# Altium integrated library TI Power Management Linear Regulator Single Channel LDO (0-350mA).IntLib: 1648 symbols (part 23 of 66)
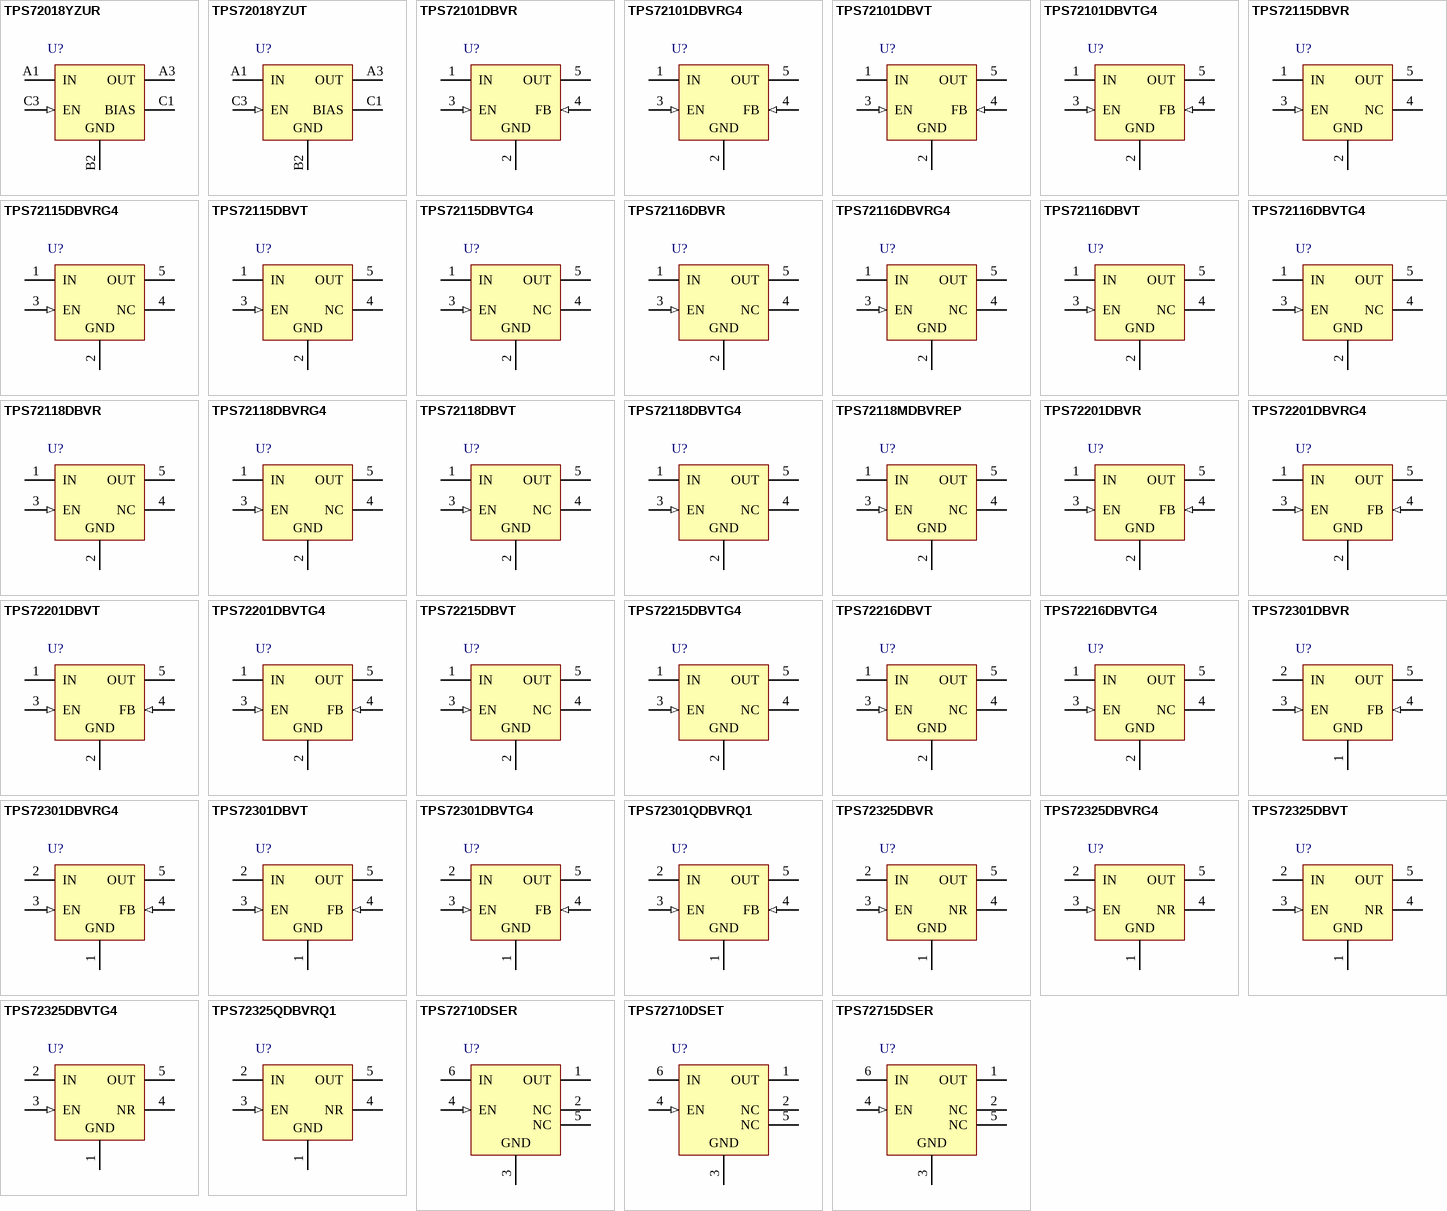
[diagram p64: symbols TPS72018YZUR to TPS72715DSER]

## TPS72118MDBVREP
designator U?
Single Output Cap Free LDO, 100 mA, Fixed 1.8 V Output, 1.8 to 5.5 V Input, 5-pin SOT-23 (DBV), -55 to 125 degC, Green (RoHS & no Sb/Br); Manufacturer: Texas Instruments; PartNumber: TPS72118MDBVREP; Accuracy(%): 3; Fixed Output Options(V): 1.8; Iout(Max)(A): 0.1; Iq(Typ)(mA): 0.57; Rating: HiRel Enhanced Product; SubFamily: Single Channel LDO; Vdo(Typ)(mV): 150; Vin(Max)(V): 5.5; DatasheetVersion: SGDS037A; PackageVersion: 4073253-4/K; PackageReference: DBV5; PackageDescription: 5-Pin Plastic Small Outline, Body 1.60 × 2.90 mm, Pitch 0.95 mm; Supplier 1: Digi-Key; Supplier Part Number 1: 296-23481-2-ND; Supplier 2: Digi-Key; Supplier Part Number 2: 296-23481-1-ND; Supplier 3: Digi-Key; Supplier Part Number 3: 296-23481-6-ND; Supplier 4: Newark; Supplier Part Number 4: 79R8607; Supplier 5: Mouser; Supplier Part Number 5: 595-TPS72118MDBVREP; Eco-Plan: Green (RoHS & no Sb/Br); Vin(Min)(V): 1.8; Vout Adj(Max)(V): 1.8; Vout Adj(Min)(V): 1.8; Mounting Technology: Surface Mount; Code_JEDEC: MO-178; ComponentLink1Description: Manufacturer URL; ComponentLink1URL: http://www.ti.com/; ComponentLink2Description: Datasheet; ComponentLink2URL: http://www.ti.com/general/docs/lit/getliterature.tsp?genericPartNumber=TPS72118-EP&fileType=pdf; ComponentLink3Description: Package Specification; ComponentLink3URL: http://www.ti.com/litv/pdf/mpds018i
footprint TI-DBV5_N (SOT23, 5-Leads, Body 2.9x1.6mm, Pitch 0.95mm, IPC Medium Density)
footprint TI-DBV5_L (SOT23, 5-Leads, Body 2.9x1.6mm, Pitch 0.95mm, IPC High Density)
footprint TI-DBV5_M (SOT23, 5-Leads, Body 2.9x1.6mm, Pitch 0.95mm, IPC Low Density)
pins: 1 IN (power) "Input supply voltage", 2 GND (power) "Ground", 3 EN (in) "Enable input", 4 NC "No connected", 5 OUT (power) "Regulated output voltage"

## TPS72201DBVR
designator U?
Single Output Low Noise LDO, 50 mA, Adjustable 1.22 to 2.5 V Output, 1.8 to 5.5 V Input, 5-pin SOT-23 (DBV), -40 to 125 degC, Green (RoHS & no Sb/Br); Manufacturer: Texas Instruments; PartNumber: TPS72201DBVR; Accuracy(%): 3; Iout(Max)(A): 0.05; Iq(Typ)(mA): 0.28; Rating: Catalog; SubFamily: Single Channel LDO; Vdo(Typ)(mV): 50; Vin(Max)(V): 5.5; Vin(Min)(V): 1.8; Vout Adj(Max)(V): 2.5; Vout Adj(Min)(V): 1.22; DatasheetVersion: SLVS390B; PackageVersion: 4073253-4/K; PackageReference: DBV5; PackageDescription: 5-Pin Plastic Small Outline, Body 1.60 × 2.90 mm, Pitch 0.95 mm; Supplier 1: Digi-Key; Supplier Part Number 1: 296-17874-2-ND; Supplier 2: Digi-Key; Supplier Part Number 2: 296-17874-1-ND; Supplier 3: Digi-Key; Supplier Part Number 3: 296-17874-6-ND; Supplier 4: Mouser; Supplier Part Number 4: 595-TPS72201DBVR; Eco-Plan: Green (RoHS & no Sb/Br); Mounting Technology: Surface Mount; Code_JEDEC: MO-178; ComponentLink1Description: Manufacturer URL; ComponentLink1URL: http://www.ti.com/; ComponentLink2Description: Datasheet; ComponentLink2URL: http://www.ti.com/general/docs/lit/getliterature.tsp?genericPartNumber=TPS72201&fileType=pdf; ComponentLink3Description: Package Specification; ComponentLink3URL: http://www.ti.com/litv/pdf/mpds018i; ComponentLink4Description: URL Link1; ComponentLink4URL: Samples URL:http://www.ti.com/product/tps72201#samples
footprint TI-DBV5_N (SOT23, 5-Leads, Body 2.9x1.6mm, Pitch 0.95mm, IPC Medium Density)
footprint TI-DBV5_L (SOT23, 5-Leads, Body 2.9x1.6mm, Pitch 0.95mm, IPC High Density)
footprint TI-DBV5_M (SOT23, 5-Leads, Body 2.9x1.6mm, Pitch 0.95mm, IPC Low Density)
pins: 1 IN (power) "Input pin. A small capacitor is needed from this pin to ground to assure stability. Typical input capacitor = 1.0uF. Both input and output capacitor grounds should be tied back to the IC ground with no significant impedance (See Datasheet)", 2 GND (power) "Ground pin.", 3 EN (in) "Driving the enable pin (EN) over 1.2V turns on the regulator. Driving this pin below 0.4V puts the regulator into shutdown mode, reducing operating current to 18nA typical.", 4 FB (in) "Feedback pin (FB) for adjustable versions", 5 OUT (power) "Regulated output voltage pin. A small 1-uF ceramic capacitor is needed from this pin to ground to assure stability.See Input and Output Capacitor Requirements in the Application Information section for more details."

## TPS72201DBVRG4
designator U?
Single Output Low Noise LDO, 50 mA, Adjustable 1.22 to 2.5 V Output, 1.8 to 5.5 V Input, 5-pin SOT-23 (DBV), -40 to 125 degC, Green (RoHS & no Sb/Br); Manufacturer: Texas Instruments; PartNumber: TPS72201DBVRG4; Accuracy(%): 3; Iout(Max)(A): 0.05; Iq(Typ)(mA): 0.28; Rating: Catalog; SubFamily: Single Channel LDO; Vdo(Typ)(mV): 50; Vin(Max)(V): 5.5; Vin(Min)(V): 1.8; Vout Adj(Max)(V): 2.5; Vout Adj(Min)(V): 1.22; DatasheetVersion: SLVS390B; PackageVersion: 4073253-4/K; PackageReference: DBV5; PackageDescription: 5-Pin Plastic Small Outline, Body 1.60 × 2.90 mm, Pitch 0.95 mm; Supplier 1: Digi-Key; Supplier Part Number 1: TPS72201DBVRG4-ND; Supplier 2: Newark; Supplier Part Number 2: 33K7687; Supplier 3: Mouser; Supplier Part Number 3: 595-TPS72201DBVRG4; Eco-Plan: Green (RoHS & no Sb/Br); Mounting Technology: Surface Mount; Code_JEDEC: MO-178; ComponentLink1Description: Manufacturer URL; ComponentLink1URL: http://www.ti.com/; ComponentLink2Description: Datasheet; ComponentLink2URL: http://www.ti.com/general/docs/lit/getliterature.tsp?genericPartNumber=TPS72201&fileType=pdf; ComponentLink3Description: Package Specification; ComponentLink3URL: http://www.ti.com/litv/pdf/mpds018i; ComponentLink4Description: URL Link1; ComponentLink4URL: Samples URL:http://www.ti.com/product/tps72201#samples
footprint TI-DBV5_N (SOT23, 5-Leads, Body 2.9x1.6mm, Pitch 0.95mm, IPC Medium Density)
footprint TI-DBV5_L (SOT23, 5-Leads, Body 2.9x1.6mm, Pitch 0.95mm, IPC High Density)
footprint TI-DBV5_M (SOT23, 5-Leads, Body 2.9x1.6mm, Pitch 0.95mm, IPC Low Density)
pins: 1 IN (power) "Input pin. A small capacitor is needed from this pin to ground to assure stability. Typical input capacitor = 1.0uF. Both input and output capacitor grounds should be tied back to the IC ground with no significant impedance (See Datasheet)", 2 GND (power) "Ground pin.", 3 EN (in) "Driving the enable pin (EN) over 1.2V turns on the regulator. Driving this pin below 0.4V puts the regulator into shutdown mode, reducing operating current to 18nA typical.", 4 FB (in) "Feedback pin (FB) for adjustable versions", 5 OUT (power) "Regulated output voltage pin. A small 1-uF ceramic capacitor is needed from this pin to ground to assure stability.See Input and Output Capacitor Requirements in the Application Information section for more details."

## TPS72201DBVT
designator U?
Single Output Low Noise LDO, 50 mA, Adjustable 1.22 to 2.5 V Output, 1.8 to 5.5 V Input, 5-pin SOT-23 (DBV), -40 to 125 degC, Green (RoHS & no Sb/Br); Manufacturer: Texas Instruments; PartNumber: TPS72201DBVT; Accuracy(%): 3; Iout(Max)(A): 0.05; Iq(Typ)(mA): 0.28; Rating: Catalog; SubFamily: Single Channel LDO; Vdo(Typ)(mV): 50; Vin(Max)(V): 5.5; Vin(Min)(V): 1.8; Vout Adj(Max)(V): 2.5; Vout Adj(Min)(V): 1.22; DatasheetVersion: SLVS390B; PackageVersion: 4073253-4/K; PackageReference: DBV5; PackageDescription: 5-Pin Plastic Small Outline, Body 1.60 × 2.90 mm, Pitch 0.95 mm; Supplier 1: Digi-Key; Supplier Part Number 1: 296-15677-2-ND; Supplier 2: Digi-Key; Supplier Part Number 2: 296-15677-1-ND; Supplier 3: Digi-Key; Supplier Part Number 3: 296-15677-6-ND; Supplier 4: Mouser; Supplier Part Number 4: 595-TPS72201DBVT; Eco-Plan: Green (RoHS & no Sb/Br); Mounting Technology: Surface Mount; Code_JEDEC: MO-178; ComponentLink1Description: Manufacturer URL; ComponentLink1URL: http://www.ti.com/; ComponentLink2Description: Datasheet; ComponentLink2URL: http://www.ti.com/general/docs/lit/getliterature.tsp?genericPartNumber=TPS72201&fileType=pdf; ComponentLink3Description: Package Specification; ComponentLink3URL: http://www.ti.com/litv/pdf/mpds018i; ComponentLink4Description: URL Link1; ComponentLink4URL: Samples URL:http://www.ti.com/product/tps72201#samples
footprint TI-DBV5_N (SOT23, 5-Leads, Body 2.9x1.6mm, Pitch 0.95mm, IPC Medium Density)
footprint TI-DBV5_L (SOT23, 5-Leads, Body 2.9x1.6mm, Pitch 0.95mm, IPC High Density)
footprint TI-DBV5_M (SOT23, 5-Leads, Body 2.9x1.6mm, Pitch 0.95mm, IPC Low Density)
pins: 1 IN (power) "Input pin. A small capacitor is needed from this pin to ground to assure stability. Typical input capacitor = 1.0uF. Both input and output capacitor grounds should be tied back to the IC ground with no significant impedance (See Datasheet)", 2 GND (power) "Ground pin.", 3 EN (in) "Driving the enable pin (EN) over 1.2V turns on the regulator. Driving this pin below 0.4V puts the regulator into shutdown mode, reducing operating current to 18nA typical.", 4 FB (in) "Feedback pin (FB) for adjustable versions", 5 OUT (power) "Regulated output voltage pin. A small 1-uF ceramic capacitor is needed from this pin to ground to assure stability.See Input and Output Capacitor Requirements in the Application Information section for more details."

## TPS72201DBVTG4
designator U?
Single Output Low Noise LDO, 50 mA, Adjustable 1.22 to 2.5 V Output, 1.8 to 5.5 V Input, 5-pin SOT-23 (DBV), -40 to 125 degC, Green (RoHS & no Sb/Br); Manufacturer: Texas Instruments; PartNumber: TPS72201DBVTG4; Accuracy(%): 3; Iout(Max)(A): 0.05; Iq(Typ)(mA): 0.28; Rating: Catalog; SubFamily: Single Channel LDO; Vdo(Typ)(mV): 50; Vin(Max)(V): 5.5; Vin(Min)(V): 1.8; Vout Adj(Max)(V): 2.5; Vout Adj(Min)(V): 1.22; DatasheetVersion: SLVS390B; PackageVersion: 4073253-4/K; PackageReference: DBV5; PackageDescription: 5-Pin Plastic Small Outline, Body 1.60 × 2.90 mm, Pitch 0.95 mm; Supplier 1: Digi-Key; Supplier Part Number 1: TPS72201DBVTG4-ND; Supplier 2: Mouser; Supplier Part Number 2: 595-TPS72201DBVTG4; Eco-Plan: Green (RoHS & no Sb/Br); Mounting Technology: Surface Mount; Code_JEDEC: MO-178; ComponentLink1Description: Manufacturer URL; ComponentLink1URL: http://www.ti.com/; ComponentLink2Description: Datasheet; ComponentLink2URL: http://www.ti.com/general/docs/lit/getliterature.tsp?genericPartNumber=TPS72201&fileType=pdf; ComponentLink3Description: Package Specification; ComponentLink3URL: http://www.ti.com/litv/pdf/mpds018i; ComponentLink4Description: URL Link1; ComponentLink4URL: Samples URL:http://www.ti.com/product/tps72201#samples
footprint TI-DBV5_N (SOT23, 5-Leads, Body 2.9x1.6mm, Pitch 0.95mm, IPC Medium Density)
footprint TI-DBV5_L (SOT23, 5-Leads, Body 2.9x1.6mm, Pitch 0.95mm, IPC High Density)
footprint TI-DBV5_M (SOT23, 5-Leads, Body 2.9x1.6mm, Pitch 0.95mm, IPC Low Density)
pins: 1 IN (power) "Input pin. A small capacitor is needed from this pin to ground to assure stability. Typical input capacitor = 1.0uF. Both input and output capacitor grounds should be tied back to the IC ground with no significant impedance (See Datasheet)", 2 GND (power) "Ground pin.", 3 EN (in) "Driving the enable pin (EN) over 1.2V turns on the regulator. Driving this pin below 0.4V puts the regulator into shutdown mode, reducing operating current to 18nA typical.", 4 FB (in) "Feedback pin (FB) for adjustable versions", 5 OUT (power) "Regulated output voltage pin. A small 1-uF ceramic capacitor is needed from this pin to ground to assure stability.See Input and Output Capacitor Requirements in the Application Information section for more details."

## TPS72215DBVT
designator U?
Single Output Low Noise LDO, 50 mA, Fixed 1.5 V Output, 1.8 to 5.5 V Input, 5-pin SOT-23 (DBV), -40 to 125 degC, Green (RoHS & no Sb/Br); Manufacturer: Texas Instruments; PartNumber: TPS72215DBVT; Accuracy(%): 3; Fixed Output Options(V): 1.5; Iout(Max)(A): 0.05; Iq(Typ)(mA): 0.28; Rating: Catalog; SubFamily: Single Channel LDO; Vdo(Typ)(mV): 50; Vin(Max)(V): 5.5; Vin(Min)(V): 1.8; DatasheetVersion: SLVS390B; PackageVersion: 4073253-4/K; PackageReference: DBV5; PackageDescription: 5-Pin Plastic Small Outline, Body 1.60 × 2.90 mm, Pitch 0.95 mm; Supplier 1: Digi-Key; Supplier Part Number 1: 296-12521-2-ND; Supplier 2: Digi-Key; Supplier Part Number 2: 296-12521-1-ND; Supplier 3: Digi-Key; Supplier Part Number 3: 296-12521-6-ND; Supplier 4: Newark; Supplier Part Number 4: 77C0827; Supplier 5: Mouser; Supplier Part Number 5: 595-TPS72215DBVT; Eco-Plan: Green (RoHS & no Sb/Br); Vout Adj(Max)(V): 1.5; Vout Adj(Min)(V): 1.5; Mounting Technology: Surface Mount; Code_JEDEC: MO-178; ComponentLink1Description: Manufacturer URL; ComponentLink1URL: http://www.ti.com/; ComponentLink2Description: Datasheet; ComponentLink2URL: http://www.ti.com/general/docs/lit/getliterature.tsp?genericPartNumber=TPS72215&fileType=pdf; ComponentLink3Description: Package Specification; ComponentLink3URL: http://www.ti.com/litv/pdf/mpds018i; ComponentLink4Description: URL Link1; ComponentLink4URL: Samples URL:http://www.ti.com/product/tps72215#samples
footprint TI-DBV5_N (SOT23, 5-Leads, Body 2.9x1.6mm, Pitch 0.95mm, IPC Medium Density)
footprint TI-DBV5_L (SOT23, 5-Leads, Body 2.9x1.6mm, Pitch 0.95mm, IPC High Density)
footprint TI-DBV5_M (SOT23, 5-Leads, Body 2.9x1.6mm, Pitch 0.95mm, IPC Low Density)
pins: 1 IN (power) "Input supply voltage", 2 GND (power) "Ground", 3 EN (in) "Enable input", 4 NC "No connected", 5 OUT (power) "Regulated output voltage"

## TPS72215DBVTG4
designator U?
Single Output Low Noise LDO, 50 mA, Fixed 1.5 V Output, 1.8 to 5.5 V Input, 5-pin SOT-23 (DBV), -40 to 125 degC, Green (RoHS & no Sb/Br); Manufacturer: Texas Instruments; PartNumber: TPS72215DBVTG4; Accuracy(%): 3; Fixed Output Options(V): 1.5; Iout(Max)(A): 0.05; Iq(Typ)(mA): 0.28; Rating: Catalog; SubFamily: Single Channel LDO; Vdo(Typ)(mV): 50; Vin(Max)(V): 5.5; Vin(Min)(V): 1.8; DatasheetVersion: SLVS390B; PackageVersion: 4073253-4/K; PackageReference: DBV5; PackageDescription: 5-Pin Plastic Small Outline, Body 1.60 × 2.90 mm, Pitch 0.95 mm; Supplier 1: Digi-Key; Supplier Part Number 1: TPS72215DBVTG4-ND; Supplier 2: Newark; Supplier Part Number 2: 70K5770; Supplier 3: Mouser; Supplier Part Number 3: 595-TPS72215DBVTG4; Eco-Plan: Green (RoHS & no Sb/Br); Vout Adj(Max)(V): 1.5; Vout Adj(Min)(V): 1.5; Mounting Technology: Surface Mount; Code_JEDEC: MO-178; ComponentLink1Description: Manufacturer URL; ComponentLink1URL: http://www.ti.com/; ComponentLink2Description: Datasheet; ComponentLink2URL: http://www.ti.com/general/docs/lit/getliterature.tsp?genericPartNumber=TPS72215&fileType=pdf; ComponentLink3Description: Package Specification; ComponentLink3URL: http://www.ti.com/litv/pdf/mpds018i; ComponentLink4Description: URL Link1; ComponentLink4URL: Samples URL:http://www.ti.com/product/tps72215#samples
footprint TI-DBV5_N (SOT23, 5-Leads, Body 2.9x1.6mm, Pitch 0.95mm, IPC Medium Density)
footprint TI-DBV5_L (SOT23, 5-Leads, Body 2.9x1.6mm, Pitch 0.95mm, IPC High Density)
footprint TI-DBV5_M (SOT23, 5-Leads, Body 2.9x1.6mm, Pitch 0.95mm, IPC Low Density)
pins: 1 IN (power) "Input supply voltage", 2 GND (power) "Ground", 3 EN (in) "Enable input", 4 NC "No connected", 5 OUT (power) "Regulated output voltage"

## TPS72216DBVT
designator U?
Single Output Low Noise LDO, 50 mA, Fixed 1.6 V Output, 1.8 to 5.5 V Input, 5-pin SOT-23 (DBV), -40 to 125 degC, Green (RoHS & no Sb/Br); Manufacturer: Texas Instruments; PartNumber: TPS72216DBVT; Accuracy(%): 3; Fixed Output Options(V): 1.6; Iout(Max)(A): 0.05; Iq(Typ)(mA): 0.28; Rating: Catalog; SubFamily: Single Channel LDO; Vdo(Typ)(mV): 50; Vin(Max)(V): 5.5; Vin(Min)(V): 1.8; DatasheetVersion: SLVS390B; PackageVersion: 4073253-4/K; PackageReference: DBV5; PackageDescription: 5-Pin Plastic Small Outline, Body 1.60 × 2.90 mm, Pitch 0.95 mm; Supplier 1: Digi-Key; Supplier Part Number 1: 296-12522-2-ND; Supplier 2: Digi-Key; Supplier Part Number 2: 296-12522-1-ND; Supplier 3: Digi-Key; Supplier Part Number 3: 296-12522-6-ND; Supplier 4: Newark; Supplier Part Number 4: 77C0829; Supplier 5: Mouser; Supplier Part Number 5: 595-TPS72216DBVT; Eco-Plan: Green (RoHS & no Sb/Br); Vout Adj(Max)(V): 1.6; Vout Adj(Min)(V): 1.6; Mounting Technology: Surface Mount; Code_JEDEC: MO-178; ComponentLink1Description: Manufacturer URL; ComponentLink1URL: http://www.ti.com/; ComponentLink2Description: Datasheet; ComponentLink2URL: http://www.ti.com/general/docs/lit/getliterature.tsp?genericPartNumber=TPS72216&fileType=pdf; ComponentLink3Description: Package Specification; ComponentLink3URL: http://www.ti.com/litv/pdf/mpds018i; ComponentLink4Description: URL Link1; ComponentLink4URL: Samples URL:http://www.ti.com/product/tps72216#samples
footprint TI-DBV5_N (SOT23, 5-Leads, Body 2.9x1.6mm, Pitch 0.95mm, IPC Medium Density)
footprint TI-DBV5_L (SOT23, 5-Leads, Body 2.9x1.6mm, Pitch 0.95mm, IPC High Density)
footprint TI-DBV5_M (SOT23, 5-Leads, Body 2.9x1.6mm, Pitch 0.95mm, IPC Low Density)
pins: 1 IN (power) "Input supply voltage", 2 GND (power) "Ground", 3 EN (in) "Enable input", 4 NC "No connected", 5 OUT (power) "Regulated output voltage"

## TPS72216DBVTG4
designator U?
Single Output Low Noise LDO, 50 mA, Fixed 1.6 V Output, 1.8 to 5.5 V Input, 5-pin SOT-23 (DBV), -40 to 125 degC, Green (RoHS & no Sb/Br); Manufacturer: Texas Instruments; PartNumber: TPS72216DBVTG4; Accuracy(%): 3; Fixed Output Options(V): 1.6; Iout(Max)(A): 0.05; Iq(Typ)(mA): 0.28; Rating: Catalog; SubFamily: Single Channel LDO; Vdo(Typ)(mV): 50; Vin(Max)(V): 5.5; Vin(Min)(V): 1.8; DatasheetVersion: SLVS390B; PackageVersion: 4073253-4/K; PackageReference: DBV5; PackageDescription: 5-Pin Plastic Small Outline, Body 1.60 × 2.90 mm, Pitch 0.95 mm; Supplier 1: Digi-Key; Supplier Part Number 1: TPS72216DBVTG4-ND; Supplier 2: Mouser; Supplier Part Number 2: 595-TPS72216DBVTG4; Eco-Plan: Green (RoHS & no Sb/Br); Vout Adj(Max)(V): 1.6; Vout Adj(Min)(V): 1.6; Mounting Technology: Surface Mount; Code_JEDEC: MO-178; ComponentLink1Description: Manufacturer URL; ComponentLink1URL: http://www.ti.com/; ComponentLink2Description: Datasheet; ComponentLink2URL: http://www.ti.com/general/docs/lit/getliterature.tsp?genericPartNumber=TPS72216&fileType=pdf; ComponentLink3Description: Package Specification; ComponentLink3URL: http://www.ti.com/litv/pdf/mpds018i; ComponentLink4Description: URL Link1; ComponentLink4URL: Samples URL:http://www.ti.com/product/tps72216#samples
footprint TI-DBV5_N (SOT23, 5-Leads, Body 2.9x1.6mm, Pitch 0.95mm, IPC Medium Density)
footprint TI-DBV5_L (SOT23, 5-Leads, Body 2.9x1.6mm, Pitch 0.95mm, IPC High Density)
footprint TI-DBV5_M (SOT23, 5-Leads, Body 2.9x1.6mm, Pitch 0.95mm, IPC Low Density)
pins: 1 IN (power) "Input supply voltage", 2 GND (power) "Ground", 3 EN (in) "Enable input", 4 NC "No connected", 5 OUT (power) "Regulated output voltage"

## TPS72301DBVR
designator U?
Single Output LDO, 200 mA, Adjustable -10 to -1.2 V Output, -10 to -2.7 V Input, 5-pin SOT-23 (DBV), -40 to 125 degC, Green (RoHS & no Sb/Br); Manufacturer: Texas Instruments; PartNumber: TPS72301DBVR; Accuracy(%): 2; Iout(Max)(A): 0.2; Iq(Typ)(mA): 0.13; SubFamily: Single Channel LDO; Vdo(Typ)(mV): 280; DatasheetVersion: SLVS346B; PackageVersion: 4073253-4/K; PackageReference: DBV5; PackageDescription: 5-Pin Plastic Small Outline, Body 1.60 × 2.90 mm, Pitch 0.95 mm; Supplier 1: Digi-Key; Supplier Part Number 1: 296-27049-2-ND; Supplier 2: Digi-Key; Supplier Part Number 2: 296-27049-1-ND; Supplier 3: Digi-Key; Supplier Part Number 3: 296-27049-6-ND; Supplier 4: Newark; Supplier Part Number 4: 87H2930; Supplier 5: Mouser; Supplier Part Number 5: 595-TPS72301DBVR; Eco-Plan: Green (RoHS & no Sb/Br); Vin(Max)(V): -2.7; Vin(Min)(V): -10; Vout Adj(Max)(V): -1.2; Vout Adj(Min)(V): -10; Mounting Technology: Surface Mount; Code_JEDEC: MO-178; ComponentLink1Description: Manufacturer URL; ComponentLink1URL: http://www.ti.com/; ComponentLink2Description: Datasheet; ComponentLink2URL: http://www.ti.com/general/docs/lit/getliterature.tsp?genericPartNumber=TPS72301&fileType=pdf; ComponentLink3Description: Package Specification; ComponentLink3URL: http://www.ti.com/litv/pdf/mpds018i
footprint TI-DBV5_N (SOT23, 5-Leads, Body 2.9x1.6mm, Pitch 0.95mm, IPC Medium Density)
footprint TI-DBV5_L (SOT23, 5-Leads, Body 2.9x1.6mm, Pitch 0.95mm, IPC High Density)
footprint TI-DBV5_M (SOT23, 5-Leads, Body 2.9x1.6mm, Pitch 0.95mm, IPC Low Density)
pins: 1 GND (power) "Ground", 2 IN (power) "Input supply", 3 EN (in) "Bipolar enable pin. Driving this pin above the positive enable threshold or below the negative enable threshold turns on the regulator. Driving this pin below the positive disable threshold and above the negative disable (See Datasheet)", 4 FB (in) "Adjustable voltage version only. This pin is the input to the control loop error amplifier. It is used to set the output voltage of the device.", 5 OUT (power) "Regulated output voltage. A small 2.2uF ceramic capacitor is needed from this pin to GND to ensure stability."

## TPS72301DBVRG4
designator U?
Single Output LDO, 200 mA, Adjustable -10 to -1.2 V Output, -10 to -2.7 V Input, 5-pin SOT-23 (DBV), -40 to 125 degC, Green (RoHS & no Sb/Br); Manufacturer: Texas Instruments; PartNumber: TPS72301DBVRG4; Accuracy(%): 2; Iout(Max)(A): 0.2; Iq(Typ)(mA): 0.13; SubFamily: Single Channel LDO; Vdo(Typ)(mV): 280; DatasheetVersion: SLVS346B; PackageVersion: 4073253-4/K; PackageReference: DBV5; PackageDescription: 5-Pin Plastic Small Outline, Body 1.60 × 2.90 mm, Pitch 0.95 mm; Supplier 1: Digi-Key; Supplier Part Number 1: TPS72301DBVRG4-ND; Supplier 2: Newark; Supplier Part Number 2: 33K7690; Supplier 3: Mouser; Supplier Part Number 3: 595-TPS72301DBVRG4; Eco-Plan: Green (RoHS & no Sb/Br); Vin(Max)(V): -2.7; Vin(Min)(V): -10; Vout Adj(Max)(V): -1.2; Vout Adj(Min)(V): -10; Mounting Technology: Surface Mount; Code_JEDEC: MO-178; ComponentLink1Description: Manufacturer URL; ComponentLink1URL: http://www.ti.com/; ComponentLink2Description: Datasheet; ComponentLink2URL: http://www.ti.com/general/docs/lit/getliterature.tsp?genericPartNumber=TPS72301&fileType=pdf; ComponentLink3Description: Package Specification; ComponentLink3URL: http://www.ti.com/litv/pdf/mpds018i
footprint TI-DBV5_N (SOT23, 5-Leads, Body 2.9x1.6mm, Pitch 0.95mm, IPC Medium Density)
footprint TI-DBV5_L (SOT23, 5-Leads, Body 2.9x1.6mm, Pitch 0.95mm, IPC High Density)
footprint TI-DBV5_M (SOT23, 5-Leads, Body 2.9x1.6mm, Pitch 0.95mm, IPC Low Density)
pins: 1 GND (power) "Ground", 2 IN (power) "Input supply", 3 EN (in) "Bipolar enable pin. Driving this pin above the positive enable threshold or below the negative enable threshold turns on the regulator. Driving this pin below the positive disable threshold and above the negative disable (See Datasheet)", 4 FB (in) "Adjustable voltage version only. This pin is the input to the control loop error amplifier. It is used to set the output voltage of the device.", 5 OUT (power) "Regulated output voltage. A small 2.2uF ceramic capacitor is needed from this pin to GND to ensure stability."

## TPS72301DBVT
designator U?
Single Output LDO, 200 mA, Adjustable -10 to -1.2 V Output, -10 to -2.7 V Input, 5-pin SOT-23 (DBV), -40 to 125 degC, Green (RoHS & no Sb/Br); Manufacturer: Texas Instruments; PartNumber: TPS72301DBVT; Accuracy(%): 2; Iout(Max)(A): 0.2; Iq(Typ)(mA): 0.13; SubFamily: Single Channel LDO; Vdo(Typ)(mV): 280; DatasheetVersion: SLVS346B; PackageVersion: 4073253-4/K; PackageReference: DBV5; PackageDescription: 5-Pin Plastic Small Outline, Body 1.60 × 2.90 mm, Pitch 0.95 mm; Supplier 1: Digi-Key; Supplier Part Number 1: 296-15798-2-ND; Supplier 2: Digi-Key; Supplier Part Number 2: 296-15798-1-ND; Supplier 3: Digi-Key; Supplier Part Number 3: 296-15798-6-ND; Supplier 4: Newark; Supplier Part Number 4: 87H2931; Supplier 5: Mouser; Supplier Part Number 5: 595-TPS72301DBVT; Eco-Plan: Green (RoHS & no Sb/Br); Vin(Max)(V): -2.7; Vin(Min)(V): -10; Vout Adj(Max)(V): -1.2; Vout Adj(Min)(V): -10; Mounting Technology: Surface Mount; Code_JEDEC: MO-178; ComponentLink1Description: Manufacturer URL; ComponentLink1URL: http://www.ti.com/; ComponentLink2Description: Datasheet; ComponentLink2URL: http://www.ti.com/general/docs/lit/getliterature.tsp?genericPartNumber=TPS72301&fileType=pdf; ComponentLink3Description: Package Specification; ComponentLink3URL: http://www.ti.com/litv/pdf/mpds018i
footprint TI-DBV5_N (SOT23, 5-Leads, Body 2.9x1.6mm, Pitch 0.95mm, IPC Medium Density)
footprint TI-DBV5_L (SOT23, 5-Leads, Body 2.9x1.6mm, Pitch 0.95mm, IPC High Density)
footprint TI-DBV5_M (SOT23, 5-Leads, Body 2.9x1.6mm, Pitch 0.95mm, IPC Low Density)
pins: 1 GND (power) "Ground", 2 IN (power) "Input supply", 3 EN (in) "Bipolar enable pin. Driving this pin above the positive enable threshold or below the negative enable threshold turns on the regulator. Driving this pin below the positive disable threshold and above the negative disable (See Datasheet)", 4 FB (in) "Adjustable voltage version only. This pin is the input to the control loop error amplifier. It is used to set the output voltage of the device.", 5 OUT (power) "Regulated output voltage. A small 2.2uF ceramic capacitor is needed from this pin to GND to ensure stability."

## TPS72301DBVTG4
designator U?
Single Output LDO, 200 mA, Adjustable -10 to -1.2 V Output, -10 to -2.7 V Input, 5-pin SOT-23 (DBV), -40 to 125 degC, Green (RoHS & no Sb/Br); Manufacturer: Texas Instruments; PartNumber: TPS72301DBVTG4; Accuracy(%): 2; Iout(Max)(A): 0.2; Iq(Typ)(mA): 0.13; SubFamily: Single Channel LDO; Vdo(Typ)(mV): 280; DatasheetVersion: SLVS346B; PackageVersion: 4073253-4/K; PackageReference: DBV5; PackageDescription: 5-Pin Plastic Small Outline, Body 1.60 × 2.90 mm, Pitch 0.95 mm; Supplier 1: Digi-Key; Supplier Part Number 1: TPS72301DBVTG4-ND; Supplier 2: Farnell; Supplier Part Number 2: 1207336RL; Supplier 3: Farnell; Supplier Part Number 3: 1207336; Supplier 4: Newark; Supplier Part Number 4: 20M6743; Supplier 5: Newark; Supplier Part Number 5: 33K7691; Supplier 6: Mouser; Supplier Part Number 6: 595-TPS72301DBVTG4; Eco-Plan: Green (RoHS & no Sb/Br); Vin(Max)(V): -2.7; Vin(Min)(V): -10; Vout Adj(Max)(V): -1.2; Vout Adj(Min)(V): -10; Mounting Technology: Surface Mount; Code_JEDEC: MO-178; ComponentLink1Description: Manufacturer URL; ComponentLink1URL: http://www.ti.com/; ComponentLink2Description: Datasheet; ComponentLink2URL: http://www.ti.com/general/docs/lit/getliterature.tsp?genericPartNumber=TPS72301&fileType=pdf; ComponentLink3Description: Package Specification; ComponentLink3URL: http://www.ti.com/litv/pdf/mpds018i
footprint TI-DBV5_N (SOT23, 5-Leads, Body 2.9x1.6mm, Pitch 0.95mm, IPC Medium Density)
footprint TI-DBV5_L (SOT23, 5-Leads, Body 2.9x1.6mm, Pitch 0.95mm, IPC High Density)
footprint TI-DBV5_M (SOT23, 5-Leads, Body 2.9x1.6mm, Pitch 0.95mm, IPC Low Density)
pins: 1 GND (power) "Ground", 2 IN (power) "Input supply", 3 EN (in) "Bipolar enable pin. Driving this pin above the positive enable threshold or below the negative enable threshold turns on the regulator. Driving this pin below the positive disable threshold and above the negative disable (See Datasheet)", 4 FB (in) "Adjustable voltage version only. This pin is the input to the control loop error amplifier. It is used to set the output voltage of the device.", 5 OUT (power) "Regulated output voltage. A small 2.2uF ceramic capacitor is needed from this pin to GND to ensure stability."

## TPS72301QDBVRQ1
designator U?
Single Output High PSRR LDO, 200 mA, Adjustable -10 to -1.2 V Output, -10 to -2.7 V Input, 5-pin SOT-23 (DBV), -40 to 125 degC, Green (RoHS & no Sb/Br); Manufacturer: Texas Instruments; PartNumber: TPS72301QDBVRQ1; Accuracy(%): 2; Iout(Max)(A): 0.2; Iq(Typ)(mA): 0.13; SubFamily: Single Channel LDO; Vdo(Typ)(mV): 280; DatasheetVersion: SLVSAJ4B; PackageVersion: 4073253-4/K; PackageReference: DBV5; PackageDescription: 5-Pin Plastic Small Outline, Body 1.60 × 2.90 mm, Pitch 0.95 mm; Supplier 1: Digi-Key; Supplier Part Number 1: TPS72301QDBVRQ1-ND; Supplier 2: Newark; Supplier Part Number 2: 48T4713; Supplier 3: Mouser; Supplier Part Number 3: 595-TPS72301QDBVRQ1; Eco-Plan: Green (RoHS & no Sb/Br); Vin(Max)(V): -2.7; Vin(Min)(V): -10; Vout Adj(Max)(V): -1.2; Vout Adj(Min)(V): -10; Mounting Technology: Surface Mount; Code_JEDEC: MO-178; ComponentLink1Description: Manufacturer URL; ComponentLink1URL: http://www.ti.com/; ComponentLink2Description: Datasheet; ComponentLink2URL: http://www.ti.com/general/docs/lit/getliterature.tsp?genericPartNumber=TPS72301-Q1&fileType=pdf; ComponentLink3Description: Package Specification; ComponentLink3URL: http://www.ti.com/litv/pdf/mpds018i
footprint TI-DBV5_N (SOT23, 5-Leads, Body 2.9x1.6mm, Pitch 0.95mm, IPC Medium Density)
footprint TI-DBV5_L (SOT23, 5-Leads, Body 2.9x1.6mm, Pitch 0.95mm, IPC High Density)
footprint TI-DBV5_M (SOT23, 5-Leads, Body 2.9x1.6mm, Pitch 0.95mm, IPC Low Density)
pins: 1 GND (power) "Ground", 2 IN (power) "Input supply", 3 EN (in) "Bipolar enable pin. Driving this pin above the positive enable threshold or below the negative enable threshold turns on the regulator. Driving this pin below the positive disable threshold and above the negative disable (See Datasheet)", 4 FB (in) "Adjustable voltage version only. This pin is the input to the control loop error amplifier. It is used to set the output voltage of the device.", 5 OUT (power) "Regulated output voltage. A small 2.2uF ceramic capacitor is needed from this pin to GND to ensure stability."

## TPS72325DBVR
designator U?
Single Output High PSRR LDO, 200 mA, Fixed -2.5 V Output, -10 to -2.7 V Input, 5-pin SOT-23 (DBV), -40 to 125 degC, Green (RoHS & no Sb/Br); Manufacturer: Texas Instruments; PartNumber: TPS72325DBVR; Accuracy(%): 2; Iout(Max)(A): 0.2; Iq(Typ)(mA): 0.13; SubFamily: Single Channel LDO; Vdo(Typ)(mV): 280; DatasheetVersion: SLVS346B; PackageVersion: 4073253-4/K; PackageReference: DBV5; PackageDescription: 5-Pin Plastic Small Outline, Body 1.60 × 2.90 mm, Pitch 0.95 mm; Supplier 1: Digi-Key; Supplier Part Number 1: TPS72325DBVR-ND; Supplier 2: Newark; Supplier Part Number 2: 87H2932; Supplier 3: Mouser; Supplier Part Number 3: 595-TPS72325DBVR; Eco-Plan: Green (RoHS & no Sb/Br); Fixed Output Options(V): -2.5; Vin(Max)(V): -2.7; Vin(Min)(V): -10; Vout Adj(Max)(V): -2.5; Vout Adj(Min)(V): -2.5; Mounting Technology: Surface Mount; Code_JEDEC: MO-178; ComponentLink1Description: Manufacturer URL; ComponentLink1URL: http://www.ti.com/; ComponentLink2Description: Datasheet; ComponentLink2URL: http://www.ti.com/general/docs/lit/getliterature.tsp?genericPartNumber=TPS72325&fileType=pdf; ComponentLink3Description: Package Specification; ComponentLink3URL: http://www.ti.com/litv/pdf/mpds018i
footprint TI-DBV5_N (SOT23, 5-Leads, Body 2.9x1.6mm, Pitch 0.95mm, IPC Medium Density)
footprint TI-DBV5_L (SOT23, 5-Leads, Body 2.9x1.6mm, Pitch 0.95mm, IPC High Density)
footprint TI-DBV5_M (SOT23, 5-Leads, Body 2.9x1.6mm, Pitch 0.95mm, IPC Low Density)
pins: 1 GND (power) "Ground", 2 IN (power) "Input supply", 3 EN (in) "Bipolar enable pin. Driving this pin above the positive enable threshold or below the negative enable threshold turns on the regulator. Driving this pin below the positive disable threshold and above the negative disable (See Datasheet)", 4 NR "Fixed-voltage versions only. Connecting an external capacitor between this pin and ground bypasses noise generated by the internal band gap. This configuration allows output noise to be reduced to very low levels.", 5 OUT (power) "Regulated output voltage. The device requires the connection of a small 2.2-uF ceramic capacitor from this pin to GND to ensure stability."

## TPS72325DBVRG4
designator U?
Single Output High PSRR LDO, 200 mA, Fixed -2.5 V Output, -10 to -2.7 V Input, 5-pin SOT-23 (DBV), -40 to 125 degC, Green (RoHS & no Sb/Br); Manufacturer: Texas Instruments; PartNumber: TPS72325DBVRG4; Accuracy(%): 2; Iout(Max)(A): 0.2; Iq(Typ)(mA): 0.13; SubFamily: Single Channel LDO; Vdo(Typ)(mV): 280; DatasheetVersion: SLVS346B; PackageVersion: 4073253-4/K; PackageReference: DBV5; PackageDescription: 5-Pin Plastic Small Outline, Body 1.60 × 2.90 mm, Pitch 0.95 mm; Supplier 1: Digi-Key; Supplier Part Number 1: TPS72325DBVRG4-ND; Supplier 2: Mouser; Supplier Part Number 2: 595-TPS72325DBVRG4; Eco-Plan: Green (RoHS & no Sb/Br); Fixed Output Options(V): -2.5; Vin(Max)(V): -2.7; Vin(Min)(V): -10; Vout Adj(Max)(V): -2.5; Vout Adj(Min)(V): -2.5; Mounting Technology: Surface Mount; Code_JEDEC: MO-178; ComponentLink1Description: Manufacturer URL; ComponentLink1URL: http://www.ti.com/; ComponentLink2Description: Datasheet; ComponentLink2URL: http://www.ti.com/general/docs/lit/getliterature.tsp?genericPartNumber=TPS72325&fileType=pdf; ComponentLink3Description: Package Specification; ComponentLink3URL: http://www.ti.com/litv/pdf/mpds018i
footprint TI-DBV5_N (SOT23, 5-Leads, Body 2.9x1.6mm, Pitch 0.95mm, IPC Medium Density)
footprint TI-DBV5_L (SOT23, 5-Leads, Body 2.9x1.6mm, Pitch 0.95mm, IPC High Density)
footprint TI-DBV5_M (SOT23, 5-Leads, Body 2.9x1.6mm, Pitch 0.95mm, IPC Low Density)
pins: 1 GND (power) "Ground", 2 IN (power) "Input supply", 3 EN (in) "Bipolar enable pin. Driving this pin above the positive enable threshold or below the negative enable threshold turns on the regulator. Driving this pin below the positive disable threshold and above the negative disable (See Datasheet)", 4 NR "Fixed-voltage versions only. Connecting an external capacitor between this pin and ground bypasses noise generated by the internal band gap. This configuration allows output noise to be reduced to very low levels.", 5 OUT (power) "Regulated output voltage. The device requires the connection of a small 2.2-uF ceramic capacitor from this pin to GND to ensure stability."

## TPS72325DBVT
designator U?
Single Output High PSRR LDO, 200 mA, Fixed -2.5 V Output, -10 to -2.7 V Input, 5-pin SOT-23 (DBV), -40 to 125 degC, Green (RoHS & no Sb/Br); Manufacturer: Texas Instruments; PartNumber: TPS72325DBVT; Accuracy(%): 2; Iout(Max)(A): 0.2; Iq(Typ)(mA): 0.13; SubFamily: Single Channel LDO; Vdo(Typ)(mV): 280; DatasheetVersion: SLVS346B; PackageVersion: 4073253-4/K; PackageReference: DBV5; PackageDescription: 5-Pin Plastic Small Outline, Body 1.60 × 2.90 mm, Pitch 0.95 mm; Supplier 1: Digi-Key; Supplier Part Number 1: 296-15799-2-ND; Supplier 2: Digi-Key; Supplier Part Number 2: 296-15799-1-ND; Supplier 3: Digi-Key; Supplier Part Number 3: 296-15799-6-ND; Supplier 4: Farnell; Supplier Part Number 4: 2134857; Supplier 5: Newark; Supplier Part Number 5: 87H2933; Supplier 6: Mouser; Supplier Part Number 6: 595-TPS72325DBVT; Eco-Plan: Green (RoHS & no Sb/Br); Fixed Output Options(V): -2.5; Vin(Max)(V): -2.7; Vin(Min)(V): -10; Vout Adj(Max)(V): -2.5; Vout Adj(Min)(V): -2.5; Mounting Technology: Surface Mount; Code_JEDEC: MO-178; ComponentLink1Description: Manufacturer URL; ComponentLink1URL: http://www.ti.com/; ComponentLink2Description: Datasheet; ComponentLink2URL: http://www.ti.com/general/docs/lit/getliterature.tsp?genericPartNumber=TPS72325&fileType=pdf; ComponentLink3Description: Package Specification; ComponentLink3URL: http://www.ti.com/litv/pdf/mpds018i
footprint TI-DBV5_N (SOT23, 5-Leads, Body 2.9x1.6mm, Pitch 0.95mm, IPC Medium Density)
footprint TI-DBV5_L (SOT23, 5-Leads, Body 2.9x1.6mm, Pitch 0.95mm, IPC High Density)
footprint TI-DBV5_M (SOT23, 5-Leads, Body 2.9x1.6mm, Pitch 0.95mm, IPC Low Density)
pins: 1 GND (power) "Ground", 2 IN (power) "Input supply", 3 EN (in) "Bipolar enable pin. Driving this pin above the positive enable threshold or below the negative enable threshold turns on the regulator. Driving this pin below the positive disable threshold and above the negative disable (See Datasheet)", 4 NR "Fixed-voltage versions only. Connecting an external capacitor between this pin and ground bypasses noise generated by the internal band gap. This configuration allows output noise to be reduced to very low levels.", 5 OUT (power) "Regulated output voltage. The device requires the connection of a small 2.2-uF ceramic capacitor from this pin to GND to ensure stability."

## TPS72325DBVTG4
designator U?
Single Output High PSRR LDO, 200 mA, Fixed -2.5 V Output, -10 to -2.7 V Input, 5-pin SOT-23 (DBV), -40 to 125 degC, Green (RoHS & no Sb/Br); Manufacturer: Texas Instruments; PartNumber: TPS72325DBVTG4; Accuracy(%): 2; Iout(Max)(A): 0.2; Iq(Typ)(mA): 0.13; SubFamily: Single Channel LDO; Vdo(Typ)(mV): 280; DatasheetVersion: SLVS346B; PackageVersion: 4073253-4/K; PackageReference: DBV5; PackageDescription: 5-Pin Plastic Small Outline, Body 1.60 × 2.90 mm, Pitch 0.95 mm; Supplier 1: Digi-Key; Supplier Part Number 1: TPS72325DBVTG4-ND; Supplier 2: Newark; Supplier Part Number 2: 54K1783; Supplier 3: Mouser; Supplier Part Number 3: 595-TPS72325DBVTG4; Eco-Plan: Green (RoHS & no Sb/Br); Fixed Output Options(V): -2.5; Vin(Max)(V): -2.7; Vin(Min)(V): -10; Vout Adj(Max)(V): -2.5; Vout Adj(Min)(V): -2.5; Mounting Technology: Surface Mount; Code_JEDEC: MO-178; ComponentLink1Description: Manufacturer URL; ComponentLink1URL: http://www.ti.com/; ComponentLink2Description: Datasheet; ComponentLink2URL: http://www.ti.com/general/docs/lit/getliterature.tsp?genericPartNumber=TPS72325&fileType=pdf; ComponentLink3Description: Package Specification; ComponentLink3URL: http://www.ti.com/litv/pdf/mpds018i
footprint TI-DBV5_N (SOT23, 5-Leads, Body 2.9x1.6mm, Pitch 0.95mm, IPC Medium Density)
footprint TI-DBV5_L (SOT23, 5-Leads, Body 2.9x1.6mm, Pitch 0.95mm, IPC High Density)
footprint TI-DBV5_M (SOT23, 5-Leads, Body 2.9x1.6mm, Pitch 0.95mm, IPC Low Density)
pins: 1 GND (power) "Ground", 2 IN (power) "Input supply", 3 EN (in) "Bipolar enable pin. Driving this pin above the positive enable threshold or below the negative enable threshold turns on the regulator. Driving this pin below the positive disable threshold and above the negative disable (See Datasheet)", 4 NR "Fixed-voltage versions only. Connecting an external capacitor between this pin and ground bypasses noise generated by the internal band gap. This configuration allows output noise to be reduced to very low levels.", 5 OUT (power) "Regulated output voltage. The device requires the connection of a small 2.2-uF ceramic capacitor from this pin to GND to ensure stability."

## TPS72325QDBVRQ1
designator U?
Single Output High PSRR LDO, 200 mA, Fixed -2.5 V Output, -10 to -2.7 V Input, 5-pin SOT-23 (DBV), -40 to 125 degC, Green (RoHS & no Sb/Br); Manufacturer: Texas Instruments; PartNumber: TPS72325QDBVRQ1; Accuracy(%): 2; Iout(Max)(A): 0.2; Iq(Typ)(mA): 0.13; SubFamily: Single Channel LDO; Vdo(Typ)(mV): 280; DatasheetVersion: SLVSAJ4B; PackageVersion: 4073253-4/K; PackageReference: DBV5; PackageDescription: 5-Pin Plastic Small Outline, Body 1.60 × 2.90 mm, Pitch 0.95 mm; Supplier 1: Digi-Key; Supplier Part Number 1: TPS72325QDBVRQ1-ND; Supplier 2: Mouser; Supplier Part Number 2: 595-TPS72325QDBVRQ1; Eco-Plan: Green (RoHS & no Sb/Br); Fixed Output Options(V): -2.5; Vin(Max)(V): -2.7; Vin(Min)(V): -10; Vout Adj(Max)(V): -2.5; Vout Adj(Min)(V): -2.5; Mounting Technology: Surface Mount; Code_JEDEC: MO-178; ComponentLink1Description: Manufacturer URL; ComponentLink1URL: http://www.ti.com/; ComponentLink2Description: Datasheet; ComponentLink2URL: http://www.ti.com/general/docs/lit/getliterature.tsp?genericPartNumber=TPS72325-Q1&fileType=pdf; ComponentLink3Description: Package Specification; ComponentLink3URL: http://www.ti.com/litv/pdf/mpds018i
footprint TI-DBV5_N (SOT23, 5-Leads, Body 2.9x1.6mm, Pitch 0.95mm, IPC Medium Density)
footprint TI-DBV5_L (SOT23, 5-Leads, Body 2.9x1.6mm, Pitch 0.95mm, IPC High Density)
footprint TI-DBV5_M (SOT23, 5-Leads, Body 2.9x1.6mm, Pitch 0.95mm, IPC Low Density)
pins: 1 GND (power) "Ground", 2 IN (power) "Input supply", 3 EN (in) "Bipolar enable pin. Driving this pin above the positive enable threshold or below the negative enable threshold turns on the regulator. Driving this pin below the positive disable threshold and above the negative disable (See Datasheet)", 4 NR "Fixed-voltage versions only. Connecting an external capacitor between this pin and ground bypasses noise generated by the internal band gap. This configuration allows output noise to be reduced to very low levels.", 5 OUT (power) "Regulated output voltage. The device requires the connection of a small 2.2-uF ceramic capacitor from this pin to GND to ensure stability."

## TPS72710DSER
designator U?
Single Output Fast Transient Response LDO, 250 mA, Fixed 1 V Output, 2 to 5.5 V Input, with Ultra-Low IQ, 6-pin WSON (DSE), -40 to 125 degC, Green (RoHS & no Sb/Br); Manufacturer: Texas Instruments; PartNumber: TPS72710DSER; Accuracy(%): 2; Fixed Output Options(V): 1; Iout(Max)(A): 0.25; Iq(Typ)(mA): 0.008; Rating: Catalog; SubFamily: Single Channel LDO; Vdo(Typ)(mV): 130; Vin(Max)(V): 5.5; DatasheetVersion: SBVS128C; PackageVersion: 4207810/A; PackageReference: DSE6; PackageDescription: 6-Pin Plastic Small Outline, Body 1.5 x 1.5 mm, Pitch 0.5 mm; Supplier 1: Digi-Key; Supplier Part Number 1: 296-29533-2-ND; Supplier 2: Digi-Key; Supplier Part Number 2: 296-29533-1-ND; Supplier 3: Digi-Key; Supplier Part Number 3: 296-29533-6-ND; Supplier 4: Mouser; Supplier Part Number 4: 595-TPS72710DSER; Eco-Plan: Green (RoHS & no Sb/Br); Vin(Min)(V): 2; Vout Adj(Max)(V): 1; Vout Adj(Min)(V): 1; Mounting Technology: Surface Mount; ComponentLink1Description: Manufacturer URL; ComponentLink1URL: http://www.ti.com/; ComponentLink2Description: Datasheet; ComponentLink2URL: http://www.ti.com/general/docs/lit/getliterature.tsp?genericPartNumber=TPS72710&fileType=pdf; ComponentLink3Description: Package Specification; ComponentLink3URL: http://www.ti.com/litv/pdf/mpds287
footprint TI-DSE6_V (SON, 6-Leads, Body 1.5x1.5mm, Pitch 0.5mm)
pins: 1 OUT (power) "Regulated output voltage pin. A small 1uF ceramic capacitor is needed from this pin to ground to assure stability.", 2 NC "No connection. This pin can be tied to to ground to improve thermal dissipation.", 3 GND (power) "Ground pin", 4 EN (in) "Enable pin. Driving EN over 0.9V turns on the regulator. Driving EN below 0.4V puts the regulator into shutdown mode, thus reducing the operating current to 120nA, nominal.", 5 NC "No connection. This pin can be tied to to ground to improve thermal dissipation.", 6 IN (power) "Input pin. A small capacitor is needed from this pin to ground to assure stability."

## TPS72710DSET
designator U?
Single Output Fast Transient Response LDO, 250 mA, Fixed 1 V Output, 2 to 5.5 V Input, with Ultra-Low IQ, 6-pin WSON (DSE), -40 to 125 degC, Green (RoHS & no Sb/Br); Manufacturer: Texas Instruments; PartNumber: TPS72710DSET; Accuracy(%): 2; Fixed Output Options(V): 1; Iout(Max)(A): 0.25; Iq(Typ)(mA): 0.008; Rating: Catalog; SubFamily: Single Channel LDO; Vdo(Typ)(mV): 130; Vin(Max)(V): 5.5; DatasheetVersion: SBVS128C; PackageVersion: 4207810/A; PackageReference: DSE6; PackageDescription: 6-Pin Plastic Small Outline, Body 1.5 x 1.5 mm, Pitch 0.5 mm; Supplier 1: Digi-Key; Supplier Part Number 1: 296-29765-2-ND; Supplier 2: Digi-Key; Supplier Part Number 2: 296-29765-1-ND; Supplier 3: Digi-Key; Supplier Part Number 3: 296-29765-6-ND; Supplier 4: Farnell; Supplier Part Number 4: 2064249RL; Supplier 5: Farnell; Supplier Part Number 5: 2064249; Supplier 6: Newark; Supplier Part Number 6: 64T4264; Supplier 7: Mouser; Supplier Part Number 7: 595-TPS72710DSET; Eco-Plan: Green (RoHS & no Sb/Br); Vin(Min)(V): 2; Vout Adj(Max)(V): 1; Vout Adj(Min)(V): 1; Mounting Technology: Surface Mount; ComponentLink1Description: Manufacturer URL; ComponentLink1URL: http://www.ti.com/; ComponentLink2Description: Datasheet; ComponentLink2URL: http://www.ti.com/general/docs/lit/getliterature.tsp?genericPartNumber=TPS72710&fileType=pdf; ComponentLink3Description: Package Specification; ComponentLink3URL: http://www.ti.com/litv/pdf/mpds287
footprint TI-DSE6_V (SON, 6-Leads, Body 1.5x1.5mm, Pitch 0.5mm)
pins: 1 OUT (power) "Regulated output voltage pin. A small 1uF ceramic capacitor is needed from this pin to ground to assure stability.", 2 NC "No connection. This pin can be tied to to ground to improve thermal dissipation.", 3 GND (power) "Ground pin", 4 EN (in) "Enable pin. Driving EN over 0.9V turns on the regulator. Driving EN below 0.4V puts the regulator into shutdown mode, thus reducing the operating current to 120nA, nominal.", 5 NC "No connection. This pin can be tied to to ground to improve thermal dissipation.", 6 IN (power) "Input pin. A small capacitor is needed from this pin to ground to assure stability."

## TPS72715DSER
designator U?
Single Output Fast Transient Response LDO, 250 mA, Fixed 1.5 V Output, 2 to 5.5 V Input, with Ultra-Low IQ, 6-pin WSON (DSE), -40 to 125 degC, Green (RoHS & no Sb/Br); Manufacturer: Texas Instruments; PartNumber: TPS72715DSER; Accuracy(%): 2; Fixed Output Options(V): 1.5; Iout(Max)(A): 0.25; Iq(Typ)(mA): 0.008; Rating: Catalog; SubFamily: Single Channel LDO; Vdo(Typ)(mV): 130; Vin(Max)(V): 5.5; DatasheetVersion: SBVS128C; PackageVersion: 4207810/A; PackageReference: DSE6; PackageDescription: 6-Pin Plastic Small Outline, Body 1.5 x 1.5 mm, Pitch 0.5 mm; Supplier 1: Digi-Key; Supplier Part Number 1: TPS72715DSER-ND; Supplier 2: Mouser; Supplier Part Number 2: 595-TPS72715DSER; Eco-Plan: Green (RoHS & no Sb/Br); Vin(Min)(V): 2; Vout Adj(Max)(V): 1.5; Vout Adj(Min)(V): 1.5; Mounting Technology: Surface Mount; ComponentLink1Description: Manufacturer URL; ComponentLink1URL: http://www.ti.com/; ComponentLink2Description: Datasheet; ComponentLink2URL: http://www.ti.com/general/docs/lit/getliterature.tsp?genericPartNumber=TPS72715&fileType=pdf; ComponentLink3Description: Package Specification; ComponentLink3URL: http://www.ti.com/litv/pdf/mpds287
footprint TI-DSE6_V (SON, 6-Leads, Body 1.5x1.5mm, Pitch 0.5mm)
pins: 1 OUT (power) "Regulated output voltage pin. A small 1uF ceramic capacitor is needed from this pin to ground to assure stability.", 2 NC "No connection. This pin can be tied to to ground to improve thermal dissipation.", 3 GND (power) "Ground pin", 4 EN (in) "Enable pin. Driving EN over 0.9V turns on the regulator. Driving EN below 0.4V puts the regulator into shutdown mode, thus reducing the operating current to 120nA, nominal.", 5 NC "No connection. This pin can be tied to to ground to improve thermal dissipation.", 6 IN (power) "Input pin. A small capacitor is needed from this pin to ground to assure stability."

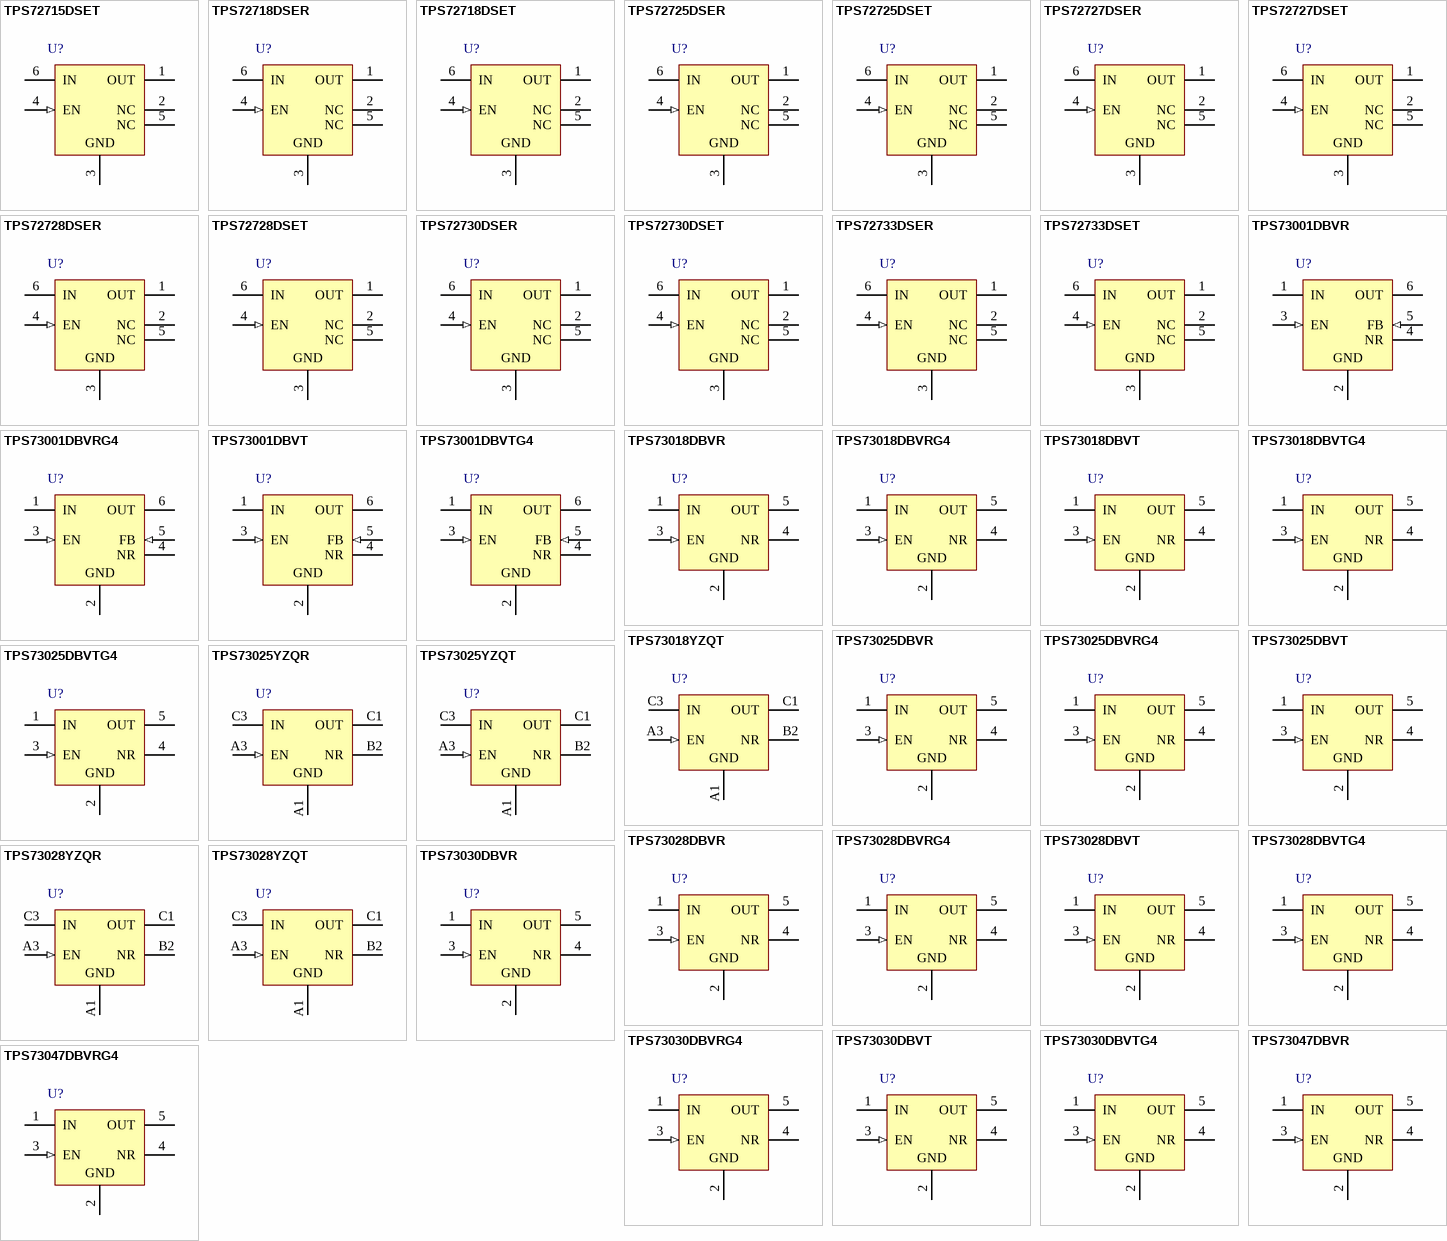
[diagram p16: symbols TPS72715DSET to TPS73047DBVRG4]

## TPS72715DSET
designator U?
Single Output Fast Transient Response LDO, 250 mA, Fixed 1.5 V Output, 2 to 5.5 V Input, with Ultra-Low IQ, 6-pin WSON (DSE), -40 to 125 degC, Green (RoHS & no Sb/Br); Manufacturer: Texas Instruments; PartNumber: TPS72715DSET; Accuracy(%): 2; Fixed Output Options(V): 1.5; Iout(Max)(A): 0.25; Iq(Typ)(mA): 0.008; Rating: Catalog; SubFamily: Single Channel LDO; Vdo(Typ)(mV): 130; Vin(Max)(V): 5.5; DatasheetVersion: SBVS128C; PackageVersion: 4207810/A; PackageReference: DSE6; PackageDescription: 6-Pin Plastic Small Outline, Body 1.5 x 1.5 mm, Pitch 0.5 mm; Supplier 1: Digi-Key; Supplier Part Number 1: 296-25191-2-ND; Supplier 2: Digi-Key; Supplier Part Number 2: 296-25191-1-ND; Supplier 3: Digi-Key; Supplier Part Number 3: 296-25191-6-ND; Supplier 4: Newark; Supplier Part Number 4: 34R6356; Supplier 5: Mouser; Supplier Part Number 5: 595-TPS72715DSET; Eco-Plan: Green (RoHS & no Sb/Br); Vin(Min)(V): 2; Vout Adj(Max)(V): 1.5; Vout Adj(Min)(V): 1.5; Mounting Technology: Surface Mount; ComponentLink1Description: Manufacturer URL; ComponentLink1URL: http://www.ti.com/; ComponentLink2Description: Datasheet; ComponentLink2URL: http://www.ti.com/general/docs/lit/getliterature.tsp?genericPartNumber=TPS72715&fileType=pdf; ComponentLink3Description: Package Specification; ComponentLink3URL: http://www.ti.com/litv/pdf/mpds287
footprint TI-DSE6_V (SON, 6-Leads, Body 1.5x1.5mm, Pitch 0.5mm)
pins: 1 OUT (power) "Regulated output voltage pin. A small 1uF ceramic capacitor is needed from this pin to ground to assure stability.", 2 NC "No connection. This pin can be tied to to ground to improve thermal dissipation.", 3 GND (power) "Ground pin", 4 EN (in) "Enable pin. Driving EN over 0.9V turns on the regulator. Driving EN below 0.4V puts the regulator into shutdown mode, thus reducing the operating current to 120nA, nominal.", 5 NC "No connection. This pin can be tied to to ground to improve thermal dissipation.", 6 IN (power) "Input pin. A small capacitor is needed from this pin to ground to assure stability."